# Altium footprint library PASSIVE.PcbLib: 6 footprints
Each footprint in its own frame and in the unit in brackets; x right, y up, seen from the top. Pads: shape width x height; smd on the part's side, far side on the other; paste and mask are expansions set on the pad; w line width, h text height; cw(c..) or ccw(c..) is an arc to the next point about the centre after c.
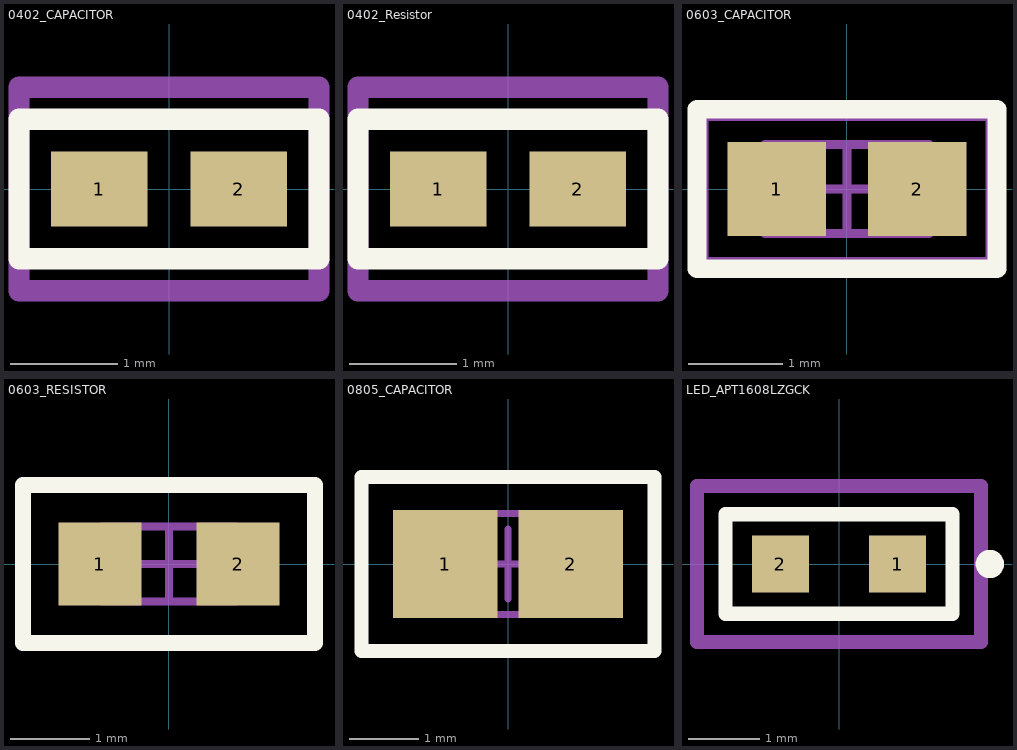
[diagram p0: the footprints below, top view; thin cyan lines are the x and y axes]

## 0402_CAPACITOR [mm]
pads (2):
  rect 0.9x0.7 smd: 1(-0.65,0) 2(0.65,0)
Top Overlay:
  lines w0.2: -1.4,-0.65 1.4,-0.65 1.4,0.65 -1.4,0.65 -1.4,-0.65
Top Courtyard:
  lines w0.2: -1.4,-0.95 -1.4,0.95 1.4,0.95 1.4,-0.95 -1.4,-0.95

## 0402_Resistor [mm]
pads (2):
  rect 0.9x0.7 smd: 1(-0.65,0) 2(0.65,0)
Top Overlay:
  lines w0.2: -1.4,-0.65 -1.4,0.65 1.4,0.65 1.4,-0.65 -1.4,-0.65
Top Courtyard:
  lines w0.2: -1.4,-0.95 -1.4,0.95 1.4,0.95 1.4,-0.95 -1.4,-0.95

## 0603_CAPACITOR [mm] "Chip Capacitor, 2-Leads, Body 1.60x0.80mm, IPC Medium Density"
height 0.85
pads (2):
  rect 1.05x1 smd: 1(-0.75,0) 2(0.75,0)
Top Overlay:
  lines w0.2: -1.6,-0.85 1.6,-0.85 1.6,0.85 -1.6,0.85 -1.6,-0.85
Top 3D Model:
  lines w0.1: -0.875,-0.475 -0.875,0.475 0.875,0.475 0.875,-0.475 -0.875,-0.475
Top Courtyard:
  lines w0.05: -1.5,-0.75 -1.5,0.75 1.5,0.75 1.5,-0.75 -1.5,-0.75
  lines w0.1: -0.475,0 0.475,0 ; 0,-0.475 0,0.475
3D body: height 0.85, standoff 0, extent -0.525,-0.475 0.525,0.475
3D body: height 0.85, standoff 0, extent -0.875,-0.475 -0.525,0.475
3D body: height 0.85, standoff 0, extent 0.525,-0.475 0.875,0.475

## 0603_RESISTOR [mm]
height 0.6
pads (2):
  rect 1.05x1.05 smd: 1(-0.875,0) 2(0.875,0)
Top Overlay:
  lines w0.2: -1.85,-1 1.85,-1 1.85,1 -1.85,1 -1.85,-1
Top 3D Model:
  lines w0.1: -0.85,-0.475 -0.85,0.475 0.85,0.475 0.85,-0.475 -0.85,-0.475
Top Courtyard:
  lines w0.05: -1.9,-1.05 -1.9,1.05 1.9,1.05 1.9,-1.05 -1.9,-1.05
  lines w0.1: -0.475,0 0.475,0 ; 0,-0.475 0,0.475
3D body: height 0.6, standoff 0, extent -0.57,-0.475 0.57,0.475
3D body: height 0.6, standoff 0, extent -0.85,-0.475 -0.57,0.475
3D body: height 0.6, standoff 0, extent 0.57,-0.475 0.85,0.475

## 0805_CAPACITOR [mm] "Chip Capacitor, 2-Leads, Body 2.00x1.25mm, IPC Low Density"
height 1.1
pads (2):
  rect 1.5x1.55 smd: 1(-0.9,0) 2(0.9,0)
Top Overlay:
  lines w0.2: -2.1,-1.25 2.1,-1.25 2.1,1.25 -2.1,1.25 -2.1,-1.25
Top 3D Model:
  lines w0.1: -1.1,-0.725 -1.1,0.725 1.1,0.725 1.1,-0.725 -1.1,-0.725
Top Courtyard:
  lines w0.05: -2.15,-1.3 -2.15,1.3 2.15,1.3 2.15,-1.3 -2.15,-1.3
  lines w0.1: -0.5,0 0.5,0 ; 0,-0.5 0,0.5
3D body: height 1.1, standoff 0, extent -0.6,-0.725 0.6,0.725
3D body: height 1.1, standoff 0, extent -1.1,-0.725 -0.6,0.725
3D body: height 1.1, standoff 0, extent 0.6,-0.725 1.1,0.725

## LED_APT1608LZGCK [mm] "GREEN LED SMT"
pads (2):
  rect 0.8x0.8 smd paste+0 mask+0: 1(0.825,0) 2(-0.825,0)
Top Overlay:
  circle w0.2: c2.125,0 r0.1
  lines w0.2: -1.6,-0.7 1.6,-0.7 1.6,0.7 -1.6,0.7 -1.6,-0.7
Top Courtyard:
  lines w0.2: -2,-1.1 2,-1.1 2,1.1 -2,1.1 -2,-1.1